# EAGLE library part 8-PIN-CONNECTOR (library boscoverysat)
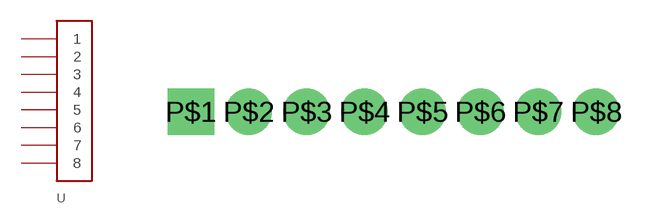
[diagram p1: symbol with the pads of 8-PIN-CONNECTOR; footprint 8-PIN-CONNECTOR]

Designator prefix -

## 8-PIN-CONNECTOR  [8-PIN-CONNECTOR]
P$1  1
P$2  2
P$3  3
P$4  4
P$5  5
P$6  6
P$7  7
P$8  8

## Footprint 8-PIN-CONNECTOR (pad centres in mm)
drill 0.254 pad 2.032 square: P$1 -8.89,0
drill 0.254 pad 2.032: P$2 -6.35,0; P$3 -3.81,0; P$4 -1.27,0; P$5 1.27,0; P$6 3.81,0; P$7 6.35,0; P$8 8.89,0